# EAGLE library part ARDUINO_PRO (library ecar)
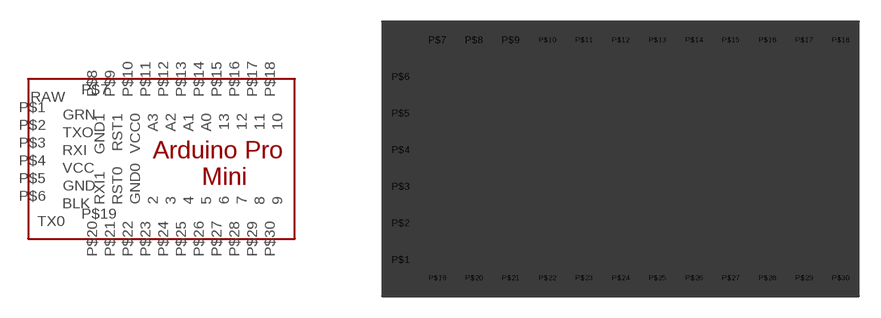
[diagram p12: symbol with the pads of ARDUINO_PRO; footprint ARDUINO_PRO]

Designator prefix -

## ARDUINO_PRO  [ARDUINO_PRO]
P$1  GRN
P$2  TXO
P$3  RXI
P$4  VCC
P$5  GND
P$6  BLK
P$7  RAW
P$8  GND1
P$9  RST1
P$10  VCC0
P$11  A3
P$12  A2
P$13  A1
P$14  A0
P$15  13
P$16  12
P$17  11
P$18  10
P$19  TX0
P$20  RXI1
P$21  RST0
P$22  GND0
P$23  2
P$24  3
P$25  4
P$26  5
P$27  6
P$28  7
P$29  8
P$30  9

## Footprint ARDUINO_PRO (pad centres in mm)
drill 0.6: P$1 1.27,2.54; P$2 1.27,5.08; P$3 1.27,7.62; P$4 1.27,10.16; P$5 1.27,12.7; P$6 1.27,15.24; P$7 3.81,17.78; P$8 6.35,17.78; P$9 8.89,17.78; P$10 11.43,17.78; P$11 13.97,17.78; P$12 16.51,17.78; P$13 19.05,17.78; P$14 21.59,17.78; P$15 24.13,17.78; P$16 26.67,17.78; P$17 29.21,17.78; P$18 31.75,17.78; P$19 3.81,1.27; P$20 6.35,1.27; P$21 8.89,1.27; P$22 11.43,1.27; P$23 13.97,1.27; P$24 16.51,1.27; P$25 19.05,1.27; P$26 21.59,1.27; P$27 24.13,1.27; P$28 26.67,1.27; P$29 29.21,1.27; P$30 31.75,1.27